# EAGLE library part 653007114822 (library WR-WTB)
WR-WTB 1.25 mm Male Vertical Shrouded Header Material Properties Insulator Material PA9T Insulator Flammability Rating UL94 V-0 Color Ivory Contact Material Copper Alloy Contact Plating Tin Contact Type Stamped Certification UL Approval E323964 General Information Operating Temperature -40 °C up to +85 °C Compliance RoHS IR 1 A Working Voltage 125 V (AC) Withstanding Voltage 250 V (AC) Contact Resistance 20 mΩ RISO 100 MΩ Pitch 1.25 mm Gender Male Type Vertical Packaging Properties Packaging Bag; Tube Details see: www.we-online.com/en/components/products/WTB_1_25_MALE_VERTICAL_SHROUDED_HEADER_6530XX114822 Updated by Ella 2025-03-06 2025 (C) Würth Elektronik
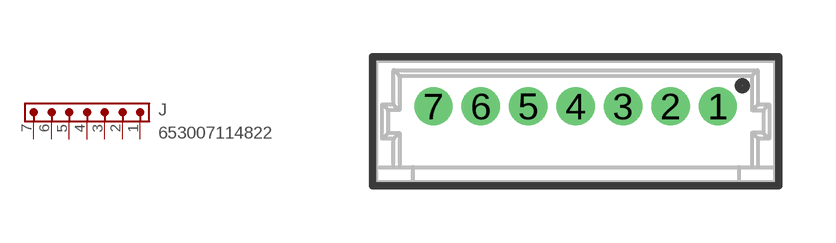
[diagram p21: symbol with the pads of 653007114822; footprint 653007114822]

Designator prefix J

## 653007114822 (CONTACT-RESISTANCE: 20mOhm; DATASHEET: https://www.we-online.com/redexpert/spec/653007114822?ae; GENDER: Male; IR: 1A; L: 10.5mm; MOUNT: THT; PACKAGING: Tube; PART-NUMBER: 653007114822; PCB-CABLE-PANEL: PCB; PINS: 7; PITCH: 1.25mm; TYPE: Vertical; VALUE: 653007114822; WORKING-VOLTAGE: 125V(AC))  [653007114822]
1  1  pas
2  2  pas
3  3  pas
4  4  pas
5  5  pas
6  6  pas
7  7  pas

## Footprint 653007114822 (pad centres in mm)
WR-WTB 1.25 mm Male Vertical Shrouded Header,7 Pins
drill 0.5 pad 0.8: 1 3.75,0.4; 2 2.5,0.4; 3 1.25,0.4; 4 0,0.4; 5 -1.25,0.4; 6 -2.5,0.4; 7 -3.75,0.4